# EAGLE library part NCP3155 (library electronic-labs)
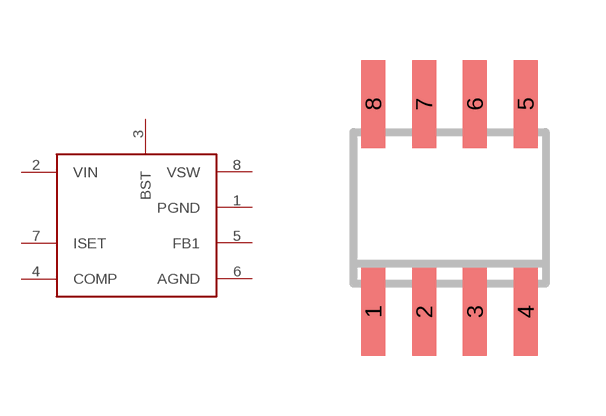
[diagram p2: symbol with the pads of SO-08; footprint SO-08]

Designator prefix U

## NCP3155  [SO-08]
1  PGND  pwr
2  VIN  pwr
3  BST
4  COMP
5  FB1
6  AGND  pwr
7  ISET
8  VSW

## Footprint SO-08 (pad centres in mm)
Small Outline Narrow Plastic Gull Wing 150-mil body, package type SN
smd 0.6 x 2.2: 1 -1.905,-2.6; 2 -0.635,-2.6; 3 0.635,-2.6; 4 1.905,-2.6; 5 1.905,2.6; 6 0.635,2.6; 7 -0.635,2.6; 8 -1.905,2.6